# Altium schematic symbol library custom.SchLib: 4 symbols
Pins are listed as number, name and electrical type; pins without a type are passive.

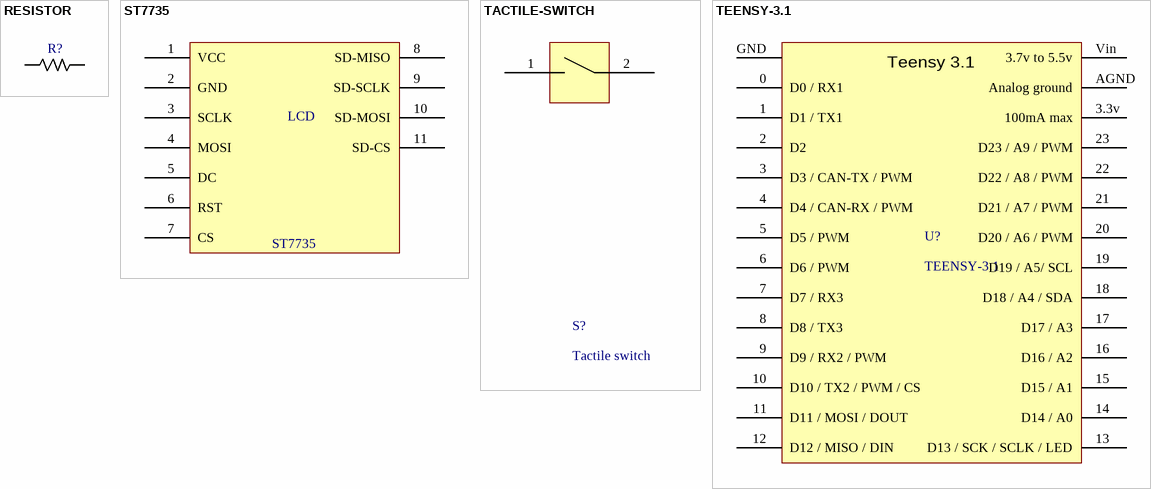
[diagram p0: symbols RESISTOR to TEENSY-3.1]

## RESISTOR
designator R?, comment Resistor  (value not drawn)
footprint RESISTOR-0603 (Chip resistor 0603 (1608))
pins: 1, 2

## ST7735
designator LCD?, comment LCD
footprint ST7735 (ST7737 128x160 LCD)
pins: 1 VCC, 2 GND, 3 SCLK, 4 MOSI, 5 DC, 6 RST, 7 CS, 8 SD-MISO, 9 SD-SCLK, 10 SD-MOSI, 11 SD-CS

## TACTILE-SWITCH
designator S?, comment Tactile switch
footprint TACTILE-SWITCH (Large tactile switch)
pins: 1, 2

## TEENSY-3.1
designator U?
Teensy 3.1 breakout
footprint TEENSY-3.1 (Teensy 3.1 breakout)
pins: 0 D0 / RX1, 1 D1 / TX1, 2 D2, 3 D3 / CAN-TX / PWM, 3.3v 100mA max, 4 D4 / CAN-RX / PWM, 5 D5 / PWM, 6 D6 / PWM, 7 D7 / RX3, 8 D8 / TX3, 9 D9 / RX2 / PWM, 10 D10 / TX2 / PWM / CS, 11 D11 / MOSI / DOUT, 12 D12 / MISO / DIN, 13 D13 / SCK / SCLK / LED, 14 D14 / A0, 15 D15 / A1, 16 D16 / A2, 17 D17 / A3, 18 D18 / A4 / SDA, 19 D19 / A5/ SCL, 20 D20 / A6 / PWM, 21 D21 / A7 / PWM, 22 D22 / A8 / PWM, 23 D23 / A9 / PWM, AGND Analog ground, GND, Vin 3.7v to 5.5v
text: Teensy 3.1